# Altium footprint library conectores.PcbLib: 12 footprints
Each footprint in its own frame and in the unit in brackets; x right, y up, seen from the top. Pads: shape width x height; smd on the part's side, far side on the other; paste and mask are expansions set on the pad; w line width, h text height; cw(c..) or ccw(c..) is an arc to the next point about the centre after c.
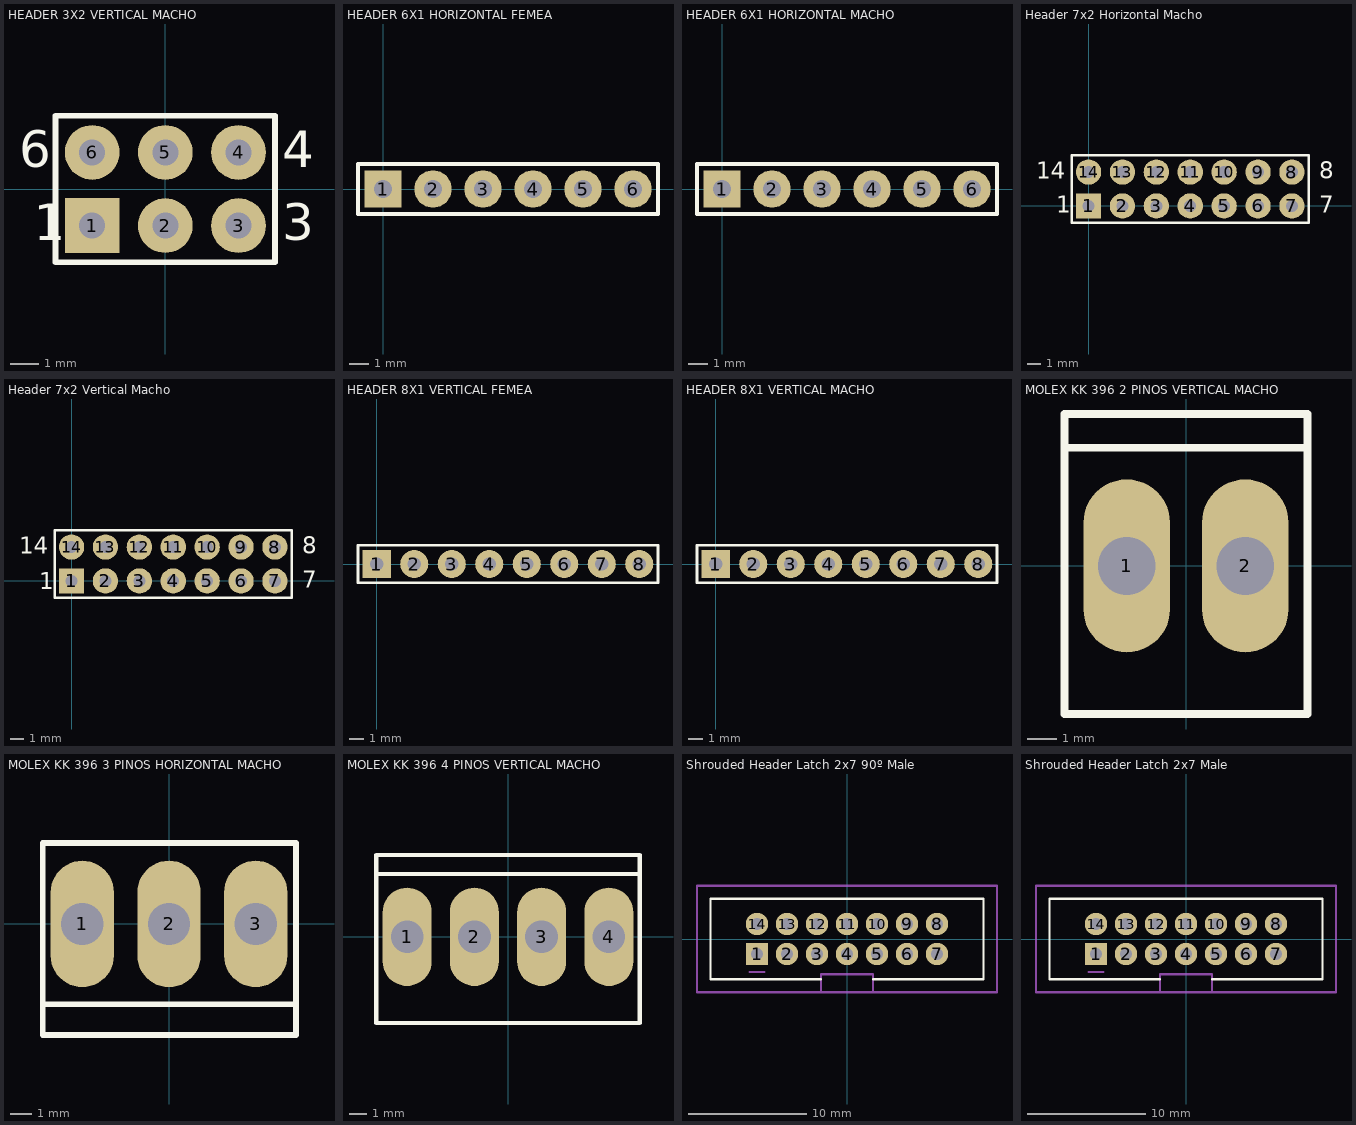
[diagram p0: the footprints below, top view; thin cyan lines are the x and y axes]

## HEADER 3X2 VERTICAL MACHO [mm] "Connector; Header; 3x2 Position"
pads (6):
  rect 1.9x1.9 hole 0.9: 1(-2.54,-1.27)
  round 1.9 hole 0.9: 2(0,-1.27) 3(2.54,-1.27) 4(2.54,1.27) 5(0,1.27) 6(-2.54,1.27)
Top Overlay:
  lines w0.2: -1.058,-2.54 3.81,-2.54 ; 3.81,-2.54 3.81,2.54 -3.81,2.54 -3.81,-2.54 3.81,-2.54
  text "4" at 4.064,0.762 h1.27
  text "3" at 4.064,-1.778 h1.27
  text "6" at -5.08,0.762 h1.27
  text "1" at -4.572,-1.778 h1.27
3D body "Header3x2_100_TH.STEP": height 8.45, standoff -2.53, extent -3.815,-2.54 3.805,2.54

## HEADER 6X1 HORIZONTAL FEMEA [mm] "Connector; Header; 6 Position, Horizontal, Female"
pads (6):
  rect 1.9x1.9 hole 0.9: 1(0,0)
  round 1.9 hole 0.9: 2(2.54,0) 3(5.08,0) 4(7.62,0) 5(10.16,0) 6(12.7,0)
Top Overlay:
  lines w0.2: -1.27,-1.27 13.97,-1.27 13.97,1.27 -1.27,1.27 -1.27,-1.27
3D body "Header F 1x6 Horizontal.STEP": height 2.55, standoff -3.58, extent -1.27,-10.178 13.97,0.173

## HEADER 6X1 HORIZONTAL MACHO [mm] "Connector; Header; 6 Position, Horizontal, Male"
pads (6):
  rect 1.9x1.9 hole 0.9: 1(0,0)
  round 1.9 hole 0.9: 2(2.54,0) 3(5.08,0) 4(7.62,0) 5(10.16,0) 6(12.7,0)
Top Overlay:
  lines w0.2: -1.27,-1.27 -1.27,1.27 13.97,1.27 13.97,-1.27 -1.27,-1.27
3D body "Header Male 254 H 6Pin.STEP": height 2.51, standoff -3, extent -1.245,-9.8 13.995,0.33

## Header 7x2 Horizontal Macho [mm] "Connector; Header; 7x2 Position, Horizontal"
pads (14):
  rect 1.9x1.9 hole 0.9: 1(0,0)
  round 1.9 hole 0.9: 2(2.54,0) 3(5.08,0) 4(7.62,0) 5(10.16,0) 6(12.7,0) 7(15.24,0) 8(15.24,2.54) 9(12.7,2.54) 10(10.16,2.54) 11(7.62,2.54) 12(5.08,2.54) 13(2.54,2.54) 14(0,2.54)
Top Overlay:
  lines w0.2: -1.27,-1.27 16.51,-1.27 16.51,3.81 -1.27,3.81 -1.27,-1.27
  text "7" at 17.272,-0.508 h1.27
  text "8" at 17.272,2.032 h1.27
  text "1" at -2.413,-0.508 h1.27
  text "14" at -3.937,2.032 h1.27
3D body "Header M 7x2 M Horizontal.STEP": height 5.04, standoff -2.81, extent -1.27,-9.652 16.51,2.818

## Header 7x2 Vertical Macho [mm] "Connector; Header; 7x2 Position, Vertical"
pads (14):
  rect 1.9x1.9 hole 0.9: 1(0,0)
  round 1.9 hole 0.9: 2(2.54,0) 3(5.08,0) 4(7.62,0) 5(10.16,0) 6(12.7,0) 7(15.24,0) 8(15.24,2.54) 9(12.7,2.54) 10(10.16,2.54) 11(7.62,2.54) 12(5.08,2.54) 13(2.54,2.54) 14(0,2.54)
Top Overlay:
  lines w0.2: -1.27,-1.27 -1.27,3.81 16.51,3.81 16.51,-1.27 -1.27,-1.27
  text "14" at -3.937,2.032 h1.27
  text "1" at -2.413,-0.635 h1.27
  text "8" at 17.272,2.032 h1.27
  text "7" at 17.272,-0.508 h1.27
3D body "Header M 7x2 Vertical.stp": height 9.61, standoff -3.99, extent -1.27,-1.245 16.51,3.785

## HEADER 8X1 VERTICAL FEMEA [mm] "Connector; Header; 8 Position, Vertical, Female"
pads (8):
  rect 1.9x1.9 hole 0.9: 1(0,0)
  round 1.9 hole 0.9: 2(2.54,0) 3(5.08,0) 4(7.62,0) 5(10.16,0) 6(12.7,0) 7(15.24,0) 8(17.78,0)
Top Overlay:
  lines w0.2: -1.27,-1.27 -1.27,1.27 19.05,1.27 19.05,-1.27 -1.27,-1.27
3D body "Header F 1x8 Vertical.step": height 8.5, standoff -3.2, extent -1.52,-1.27 19.3,1.27

## HEADER 8X1 VERTICAL MACHO [mm] "Connector; Header; 8 Position, Vertical, Male"
pads (8):
  rect 1.9x1.9 hole 0.9: 1(0,0)
  round 1.9 hole 0.9: 2(2.54,0) 3(5.08,0) 4(7.62,0) 5(10.16,0) 6(12.7,0) 7(15.24,0) 8(17.78,0)
Top Overlay:
  lines w0.2: -1.27,-1.27 19.05,-1.27 19.05,1.27 -1.27,1.27 -1.27,-1.27
3D body "Header M 1x8 Vertical.STEP": height 8.54, standoff -3, extent -1.27,-1.245 19.05,1.245

## MOLEX KK 396 2 PINOS VERTICAL MACHO [mil]
height 456.69
pads (2):
  oval 114x228 hole 76: 1(-78,0) 2(78,0)
Top Overlay:
  lines w10: -160,-195 -160,200 ; -160,-195 160,-195 ; -160,-195 160,-195 ; -160,-195 -160,200 ; -160,200 160,200 ; -160,200 160,200 ; 160,-195 160,200 ; 160,-195 160,200 ; -160,155.67 160,155.67 -160,155.67
3D body "Molex KK 396 2x1 Vertical M.stp": height 580.5, standoff -139.5, extent -153,-198.75 153,195.25

## MOLEX KK 396 3 PINOS HORIZONTAL MACHO [mil]
height 456.69
pads (3):
  oval 114x228 hole 76: 1(-156,0) 2(0,0) 3(156,0)
Top Overlay:
  lines w10: 228,-200 -227.61,-200 ; 228.61,-145.61 228.61,-200 -227.61,-200 ; -227.61,-200 -227.61,145.67 ; -227.61,-200 -227.61,145.67 ; -227.61,145.67 -227.61,-145 228.61,-145 228.61,145.67 ; -227.61,145.67 228.61,145.67 ; -227.61,145.67 228.61,145.67
3D body "Molex KK 396 3x1 Horizontal M.stp": height 394.5, standoff -155.5, extent -231,-795 231,20.5

## MOLEX KK 396 4 PINOS VERTICAL MACHO [mil]
height 456.69
pads (4):
  oval 114x228 hole 76: 1(-234,0) 2(-78,0) 3(78,0) 4(234,0)
Top Overlay:
  lines w10: -305.61,-200 305.61,-200 ; -305.61,-200 -305.61,145.67 ; -305.61,-200 305.61,-200 ; -305.61,-200 -305.61,145.67 ; -305.61,145.67 305.61,145.67 ; -305.61,145.67 -305.61,190 ; -305.61,145.67 -305.61,190 ; -305.61,145.67 305.61,145.67 ; -305.61,190 305.61,190 ; -305.61,190 305.61,190 ; 305.61,-200 305.61,145.67 ; 305.61,-200 305.61,145.67 ; 305.61,145.67 305.61,190 ; 305.61,145.67 305.61,190
3D body "Molex KK 396 4x1 Vertical M.stp": height 580.5, standoff -139.5, extent -309,-203.75 309,190.25

## Shrouded Header Latch 2x7 90º Male [mm] "Connector, Shrouded Header, Double Row, Thru-Hole, 14 Position, Horizontal, Pitch 2mm"
height 9.05
pads (14):
  rect 1.9x1.9 hole 1.016: 1(-7.62,-1.27)
  round 1.9 hole 1.016: 2(-5.08,-1.27) 3(-2.54,-1.27) 4(0,-1.27) 5(2.54,-1.27) 6(5.08,-1.27) 7(7.62,-1.27) 8(7.62,1.27) 9(5.08,1.27) 10(2.54,1.27) 11(0,1.27) 12(-2.54,1.27) 13(-5.08,1.27) 14(-7.62,1.27)
Top Overlay:
  lines w0.203: -2.2,-3.4 -11.557,-3.4 -11.557,3.4 11.557,3.4 11.557,-3.4 2.2,-3.4
Mechanical 2:
  lines w0.203: -8.255,-2.794 -6.985,-2.794 ; -2.2,-4.5 -2.2,-3 2.2,-3 2.2,-4.5 ; -2.2,-4.5 -12.7,-4.5 -12.7,4.5 12.7,4.5 12.7,-4.5 2.2,-4.5 ; -2.2,-4.5 2.2,-4.5
Mechanical 3:
  lines w0.203: -8.255,-2.794 -6.985,-2.794
3D body "70042640.stp": height 8.84, standoff -3.73, extent -12.7,-10.898 12.7,1.554

## Shrouded Header Latch 2x7 Male [mm] "Connector, Shrouded Header, Double Row, Thru-Hole, 14 Position, Vertical, Pitch 2mm"
height 9.05
pads (14):
  rect 1.9x1.9 hole 1.016: 1(-7.62,-1.27)
  round 1.9 hole 1.016: 2(-5.08,-1.27) 3(-2.54,-1.27) 4(0,-1.27) 5(2.54,-1.27) 6(5.08,-1.27) 7(7.62,-1.27) 8(7.62,1.27) 9(5.08,1.27) 10(2.54,1.27) 11(0,1.27) 12(-2.54,1.27) 13(-5.08,1.27) 14(-7.62,1.27)
Top Overlay:
  lines w0.203: -2.2,-3.4 -11.557,-3.4 -11.557,3.4 11.557,3.4 11.557,-3.4 2.2,-3.4
Mechanical 2:
  lines w0.203: -8.255,-2.794 -6.985,-2.794 ; -2.2,-4.5 2.2,-4.5 ; -2.2,-4.5 -12.7,-4.5 -12.7,4.5 12.7,4.5 12.7,-4.5 2.2,-4.5 ; -2.2,-4.5 -2.2,-3 2.2,-3 2.2,-4.5
  lines w0.254: 2.54,-1.397 2.54,-1.143
Mechanical 3:
  lines w0.203: -8.255,-2.794 -6.985,-2.794
3D body "Latch 2x7 180.stp": height 9.69, standoff -2.68, extent -12.468,-4.406 12.522,4.864